# Altium footprint library SSOP-48_0.PcbLib: 1 footprints
Each footprint in its own frame and in the unit in brackets; x right, y up, seen from the top. Pads: shape width x height; smd on the part's side, far side on the other; paste and mask are expansions set on the pad; w line width, h text height; cw(c..) or ccw(c..) is an arc to the next point about the centre after c.
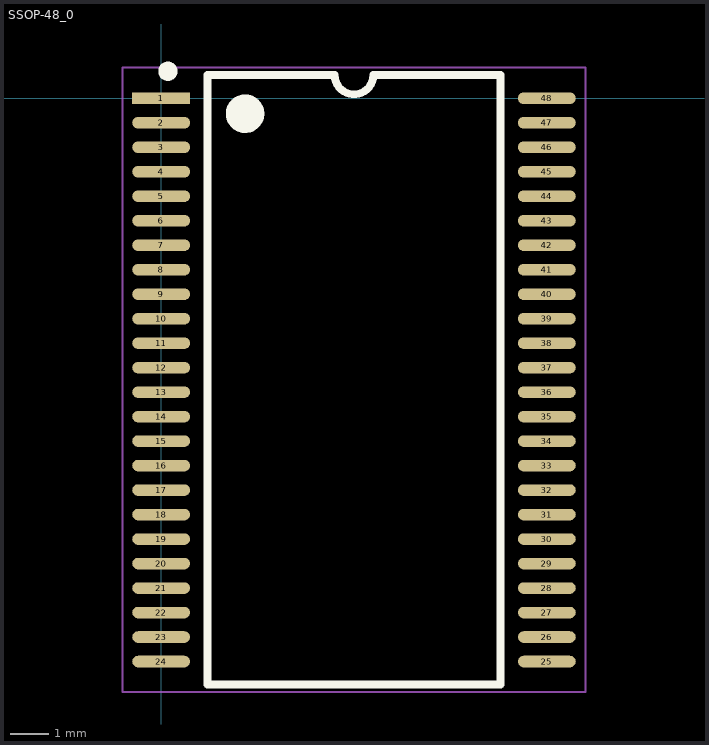
[diagram p0: the footprint, top view; thin cyan lines are the x and y axes]

## SSOP-48_0 [mm]
pads (48):
  rect 1.5x0.3 smd: 1(0,0)
  oval 1.5x0.3 smd: 2(0,-0.635) 3(0,-1.27) 4(0,-1.905) 5(0,-2.54) 6(0,-3.175) 7(0,-3.81) 8(0,-4.445) 9(0,-5.08) 10(0,-5.715) 11(0,-6.35) 12(0,-6.985) 13(0,-7.62) 14(0,-8.255) 15(0,-8.89) 16(0,-9.525) 17(0,-10.16) 18(0,-10.795) 19(0,-11.43) 20(0,-12.065) 21(0,-12.7) 22(0,-13.335) 23(0,-13.97) 24(0,-14.605) 25(10,-14.605) 26(10,-13.97) 27(10,-13.335) 28(10,-12.7) 29(10,-12.065) 30(10,-11.43) 31(10,-10.795) 32(10,-10.16) 33(10,-9.525) 34(10,-8.89) 35(10,-8.255) 36(10,-7.62) 37(10,-6.985) 38(10,-6.35) 39(10,-5.715) 40(10,-5.08) 41(10,-4.445) 42(10,-3.81) 43(10,-3.175) 44(10,-2.54) 45(10,-1.905) 46(10,-1.27) 47(10,-0.635) 48(10,0)
Top Overlay:
  circle w0.25: c0.175,0.7 r0.125
  circle w0.5: c2.175,-0.4 r0.25
  lines w0.2: 1.2,-15.2 1.2,0.6 4.5,0.6 ccw(c5,0.6) 5.5,0.6 8.8,0.6 8.8,-15.2 1.2,-15.2
Mechanical 15:
  lines w0.05: -1,-15.4 11,-15.4 11,0.8 -1,0.8 -1,-15.4
3D body "48-SSOP.SLDPRT": height 3.18, standoff -0.01, extent -0.3,-15.3 10.287,0.7